# Altium integrated library PTS636_SM25F_SMTR_LFS.IntLib: 1 symbol
Pins are listed as number, name and electrical type; pins without a type are passive.

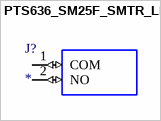
[diagram p0: symbol PTS636_SM25F_SMTR_LFS]

## PTS636_SM25F_SMTR_LFS
designator J?
Tactile Switch SPST-NO Top Actuated Surface Mount; MF: C&K; MP: PTS636 SM25F SMTR LFS; SnapEDA_Link: https://www.snapeda.com/parts/PTS636%20SM25F%20SMTR%20LFS/C%2526K/view-part/?ref=snap; Check_prices: https://www.snapeda.com/parts/PTS636%20SM25F%20SMTR%20LFS/C%2526K/view-part/?ref=eda; Value: *; Purchase-URL: https://pricing.snapeda.com/search/part/PTS636 SM25F SMTR LFS/?ref=eda; Availability: In Stock; Price: None; Package: None
footprint PTS636SM25FSMTRLFS
pins: 1 COM (io), 2 NO (io)